# Altium footprint library CONN-TH_XH2.54-5AW.PcbLib: 1 footprints
Each footprint in its own frame and in the unit in brackets; x right, y up, seen from the top. Pads: shape width x height; smd on the part's side, far side on the other; paste and mask are expansions set on the pad; w line width, h text height; cw(c..) or ccw(c..) is an arc to the next point about the centre after c.
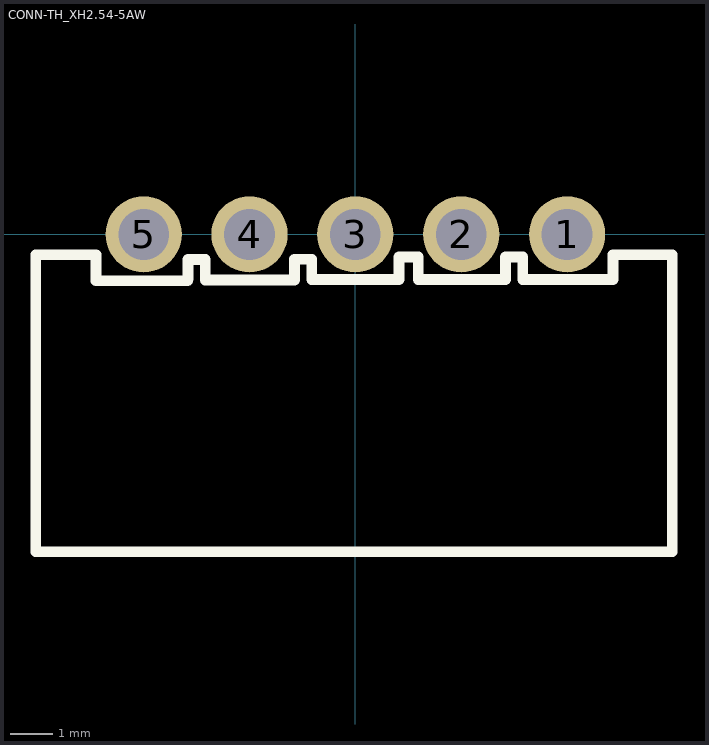
[diagram p0: the footprint, top view; thin cyan lines are the x and y axes]

## CONN-TH_XH2.54-5AW [mm]
pads (5):
  round 1.8 hole 1.199: 1(5,0) 2(2.498,0) 3(-0.001,0) 4(-2.501,0) 5(-5,0)
Top Overlay:
  lines w0.254: -7.548,-0.493 -7.548,-7.493 7.482,-7.493 7.482,-0.493 ; -7.548,-0.483 -6.125,-0.483 -6.125,-1.092 -3.966,-1.092 ; -3.954,-1.049 -3.954,-0.592 -3.547,-0.592 -3.547,-1.074 -1.436,-1.074 -1.436,-0.584 ; -1.436,-1.041 -1.436,-0.584 ; -1.055,-0.584 -1.436,-0.584 ; 1.027,-0.998 1.027,-0.541 1.487,-0.541 1.487,-1.067 3.545,-1.067 3.545,-0.533 ; 1.487,-0.533 1.03,-0.533 1.03,-1.067 -1.03,-1.067 -1.03,-0.584 -1.436,-0.584 ; 3.545,-0.991 3.545,-0.533 ; 3.926,-0.533 3.545,-0.533 ; 7.482,-0.483 6.516,-0.483 6.085,-0.483 6.085,-1.067 3.951,-1.067 3.951,-0.533 3.545,-0.533